# Altium footprint library SO6.PcbLib: 1 footprints
Each footprint in its own frame and in the unit in brackets; x right, y up, seen from the top. Pads: shape width x height; smd on the part's side, far side on the other; paste and mask are expansions set on the pad; w line width, h text height; cw(c..) or ccw(c..) is an arc to the next point about the centre after c.
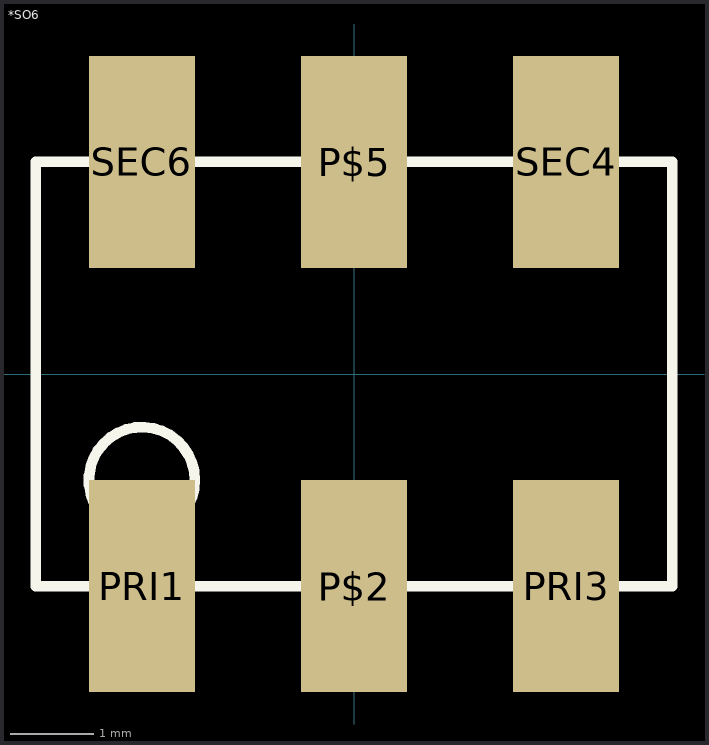
[diagram p0: the footprint, top view; thin cyan lines are the x and y axes]

## *SO6 [mil]
pads (6):
  rect 50x100 smd: P$2(0,-100) P$5(0,100) PRI1(-100,-100) PRI3(100,-100) SEC4(100,100) SEC6(-100,100)
Top Overlay:
  circle w5: c-100,-50 r25
  lines w5: -150,-100 -150,100 150,100 150,-100 -150,-100